# EAGLE library part MCP73842 (library Microchip)
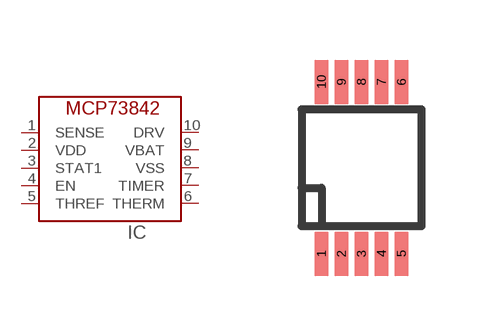
[diagram p41: symbol with the pads of MSOP10-UN; footprint MSOP10-UN]

Designator prefix IC

## MCP73842  [MSOP10-UN]
1  SENSE
2  VDD
3  STAT1
4  EN
5  THREF
6  THERM
7  TIMER
8  VSS
9  VBAT
10  DRV

## Footprint MSOP10-UN (pad centres in mm)
10-Lead Plastic Micro Small Outline Package (MSOP), Microchip package UN
smd 0.33 x 1.1: 1 -1,-2.15; 2 -0.5,-2.15; 3 0,-2.15; 4 0.5,-2.15; 5 1,-2.15; 6 1,2.15; 7 0.5,2.15; 8 0,2.15; 9 -0.5,2.15; 10 -1,2.15